# Altium footprint library CAPAE830X1050N.PcbLib: 2 footprints
Each footprint in its own frame and in the unit in brackets; x right, y up, seen from the top. Pads: shape width x height; smd on the part's side, far side on the other; paste and mask are expansions set on the pad; w line width, h text height; cw(c..) or ccw(c..) is an arc to the next point about the centre after c.
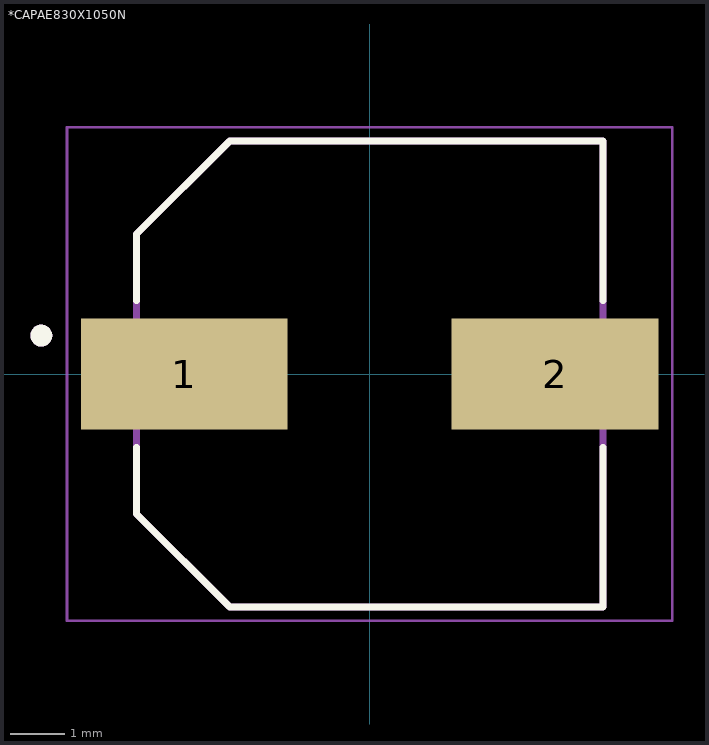
[diagram p0: the footprints below, top view; thin cyan lines are the x and y axes]

## *CAPAE830X1050N [mm]
pads (2):
  rect 3.77x2.03 smd: 1(-3.38,0) 2(3.38,0)
Top Overlay:
  circle w0.2: c-5.985,0.7 r0.1
  lines w0.127: -4.25,-1.335 -4.25,-2.55 -2.55,-4.25 4.25,-4.25 4.25,-1.335 ; -4.25,1.335 -4.25,2.55 -2.55,4.25 4.25,4.25 4.25,1.335
Mechanical 4:
  circle w0.2: c-5.985,0.7 r0.1
  circle w0.2: c-5.985,0.7 r0.1
  lines w0.127: -4.25,-2.55 -2.55,-4.25 ; -4.25,-2.55 -4.25,2.55 ; -4.25,-2.55 -2.55,-4.25 ; -4.25,-2.55 -4.25,2.55 ; -4.25,2.55 -2.55,4.25 ; -4.25,2.55 -2.55,4.25 ; -2.55,-4.25 4.25,-4.25 ; -2.55,-4.25 4.25,-4.25 ; -2.55,4.25 4.25,4.25 ; -2.55,4.25 4.25,4.25 ; 4.25,-4.25 4.25,4.25 ; 4.25,-4.25 4.25,4.25
Mechanical 16:
  lines w0.05: -5.515,-4.5 5.515,-4.5 5.515,4.5 -5.515,4.5 -5.515,-4.5

## PCBComponent_1 [mm]